# Altium footprint library UC-PCB.PcbLib: 145 footprints (part 2 of 10)
Each footprint in its own frame and in the unit in brackets; x right, y up, seen from the top. Pads: shape width x height; smd on the part's side, far side on the other; paste and mask are expansions set on the pad; w line width, h text height; cw(c..) or ccw(c..) is an arc to the next point about the centre after c.
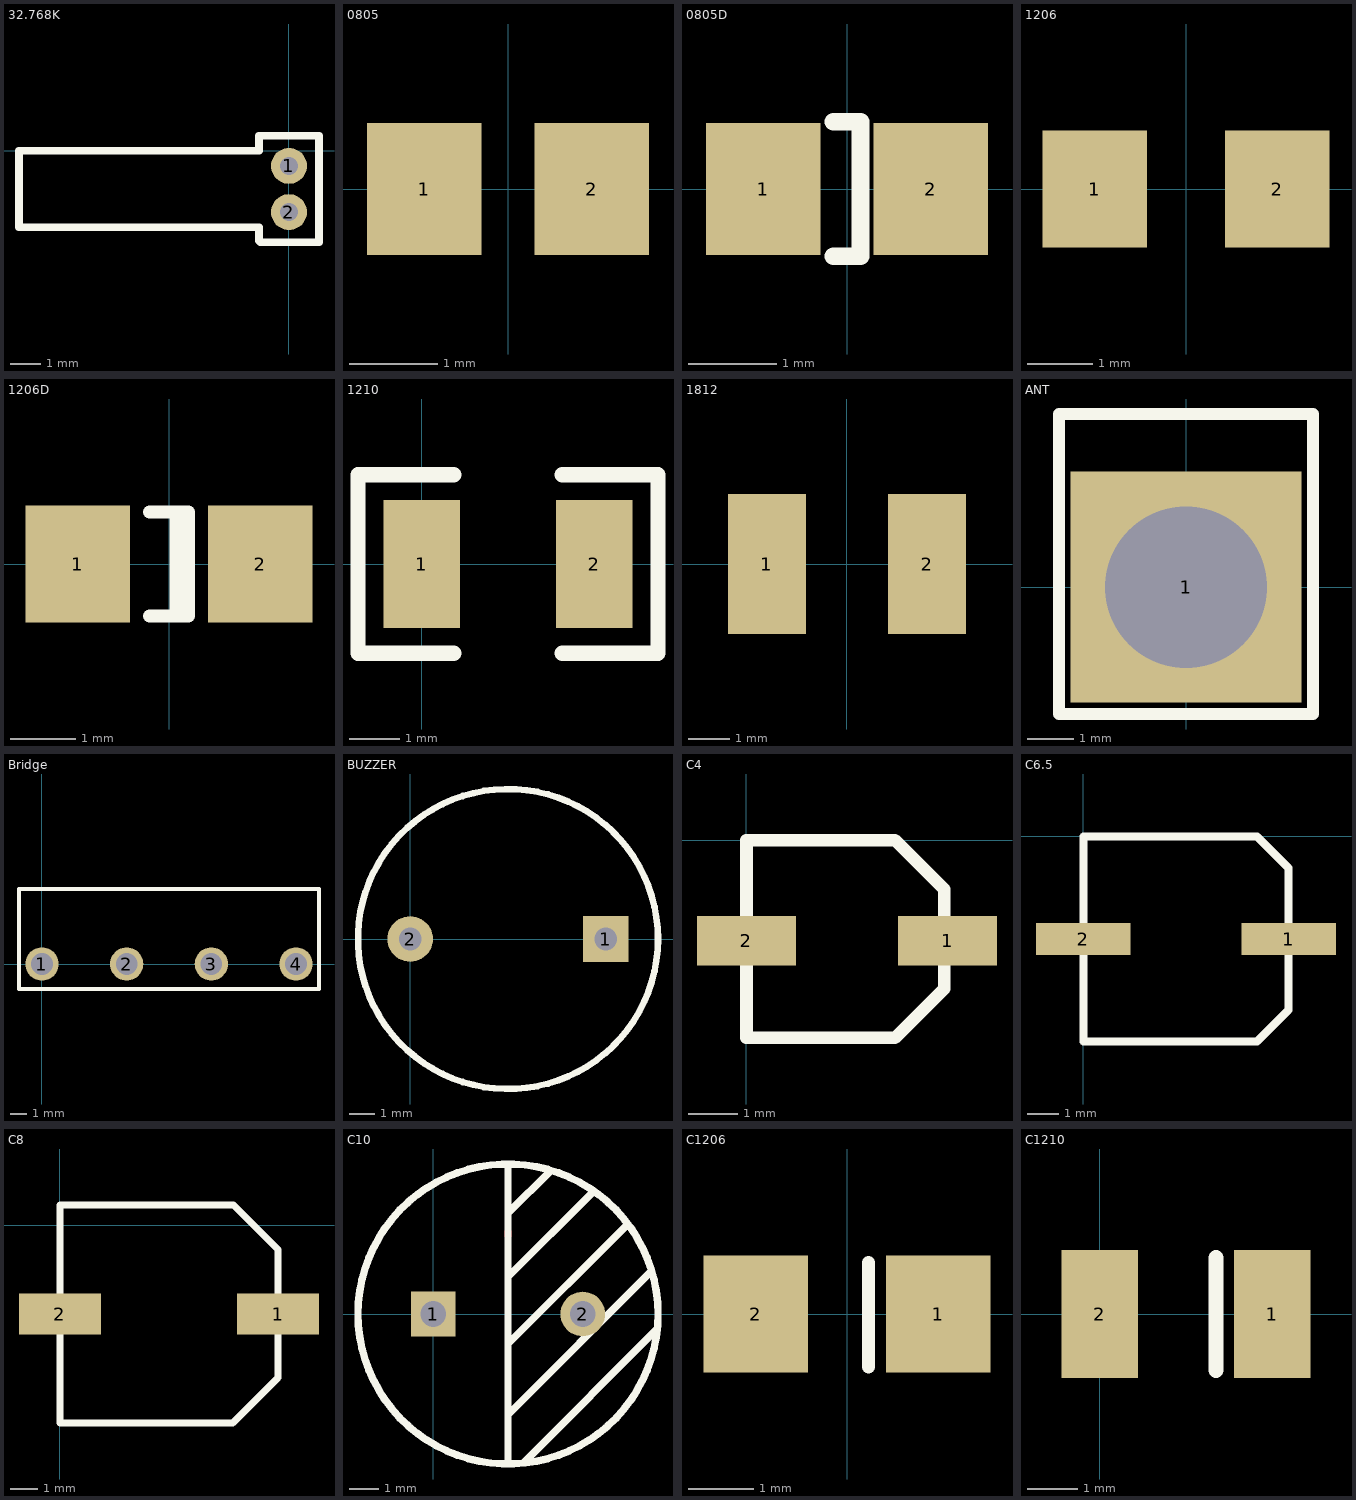
[diagram p1: the footprints below, top view; thin cyan lines are the x and y axes]

## 32.768K [mm] "圆柱形晶振"
pads (2):
  round 1.2 hole 0.6: 1(0,-0.5) 2(0,-2.04)
Top Overlay:
  lines w0.254: -9,-2.54 -1,-2.54 -1,-3 -0.96,-3.04 1,-3.04 1,0.5 -1,0.5 -1,0 -9,0 -9,-2.54

## 0805 [mm]
height 0.65
pads (2):
  rect 1.3x1.5 smd: 1(-0.95,0) 2(0.95,0)

## 0805D [mm]
height 0.65
pads (2):
  rect 1.3x1.5 smd: 1(-0.95,0) 2(0.95,0)
Top Overlay:
  lines w0.2: -0.152,-0.762 0.152,-0.762 0.152,0.762 -0.152,0.762

## 1206 [mm]
height 1.35
pads (2):
  rect 1.6x1.8 smd: 1(-1.4,0) 2(1.4,0)

## 1206D [mm]
height 1.35
pads (2):
  rect 1.6x1.8 smd: 1(-1.4,0) 2(1.4,0)
Top Overlay:
  lines w0.2: -0.3,-0.8 0.3,-0.8 0.3,0.8 -0.3,0.8 ; 0.11,-0.8 0.11,0.8

## 1210 [mil]
pads (2):
  rect 60x100 smd: 1(0,0) 2(135,0)
Top Overlay:
  lines w12: 25,-70 -50,-70 -50,70 25,70 ; 110,-70 185,-70 185,70 110,70

## 1812 [mm]
height 1.1
pads (2):
  rect 1.9x3.4 smd: 1(-1.95,0) 2(1.95,0)

## ANT [mm]
pads (1):
  rect 5x5 hole 3.5: 1(0,0)
Top Overlay:
  lines w0.254: -2.75,-2.75 -2.75,3.75 2.75,3.75 2.75,-2.75 -2.75,-2.75

## Bridge [mm]
pads (4):
  round 2 hole 1.3: 1(0,0) 2(5.08,0) 3(10.16,0) 4(15.24,0)
Top Overlay:
  lines w0.254: -1.38,-1.5 -1.38,4.5 16.62,4.5 16.62,-1.5 -1.38,-1.5

## BUZZER [mil]
pads (2):
  rect 70x70 hole 35: 1(300,0)
  round 70 hole 35: 2(0,0)
Top Overlay:
  circle w10: c150,0 r230

## C4 [mm] "4*4电解电容"
pads (2):
  rect 2x1 smd: 1(4.064,-2.032) 2(0,-2.032)
Top Overlay:
  lines w0.254: 0,-4 0,0 3,0 4,-1 4,-3 3,-4 0,-4

## C6.5 [mm] "6.5*6.5电解电容"
pads (2):
  rect 3x1 smd: 1(6.5,-3.25) 2(0,-3.25)
Top Overlay:
  lines w0.254: 0,-6.5 0,0 4.5,0 5.5,0 6.5,-1 6.5,-5.5 5.5,-6.5 0,-6.5

## C8 [mm] "8*8电解电容"
pads (2):
  rect 3x1.5 smd: 1(8,-3.25) 2(0,-3.25)
Top Overlay:
  lines w0.254: 0,-7.25 0,0.75 4.5,0.75 6.361,0.75 8,-0.889 8,-5.588 6.338,-7.25 5.5,-7.25 0,-7.25

## C10 [mil]
pads (2):
  rect 60x60 hole 34.65: 1(0,0)
  round 60 hole 34.65: 2(200,0)
Top Layer:
  lines w10: 100,105 100,110
Top Overlay:
  circle w10: c100,0 r200.79
  lines w10: 100,-200 100,200 ; 100,-135 290,55 ; 100,-40 257.5,117.5 ; 100,50 212.5,162.5 ; 102.5,137.5 155,190 ; 122.5,-197.5 300,-20

## C1206 [mm]
height 1.35
pads (2):
  rect 1.6x1.8 smd: 1(1.4,0) 2(-1.4,0)
Top Overlay:
  lines w0.2: 0.33,-0.813 0.33,0.787

## C1210 [mil]
pads (2):
  rect 60x100 smd: 1(135,0) 2(0,0)
Top Overlay:
  lines w12: 91,-44 91,44